# Altium footprint library MLP6.PcbLib: 1 footprints
Each footprint in its own frame and in the unit in brackets; x right, y up, seen from the top. Pads: shape width x height; smd on the part's side, far side on the other; paste and mask are expansions set on the pad; w line width, h text height; cw(c..) or ccw(c..) is an arc to the next point about the centre after c.
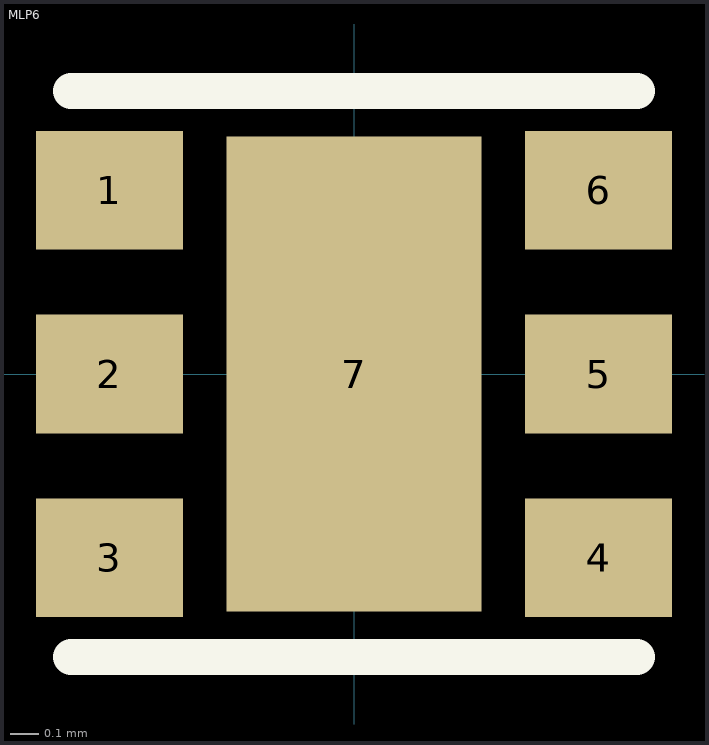
[diagram p0: the footprint, top view; thin cyan lines are the x and y axes]

## MLP6 [mm]
height 0.8
pads (7):
  rect 0.52x0.42 smd paste-0.025 mask+0.025: 1(-0.865,0.65) 2(-0.865,0) 3(-0.865,-0.65) 4(0.865,-0.65) 5(0.865,0) 6(0.865,0.65)
  rect 0.9x1.68 smd paste-0.025 mask+0.025: 7(0,0)
Top Overlay:
  lines w0.127: -1,-1 1,-1 ; -1,1 1,1
  text "." at -1.497,0.645 h0.38
3D body: height 0.8, standoff 0, extent -0.998,-1 1.002,1